# Altium footprint library LTC2367CMS-18_PBF.PCBLIB: 1 footprints
Each footprint in its own frame and in the unit in brackets; x right, y up, seen from the top. Pads: shape width x height; smd on the part's side, far side on the other; paste and mask are expansions set on the pad; w line width, h text height; cw(c..) or ccw(c..) is an arc to the next point about the centre after c.
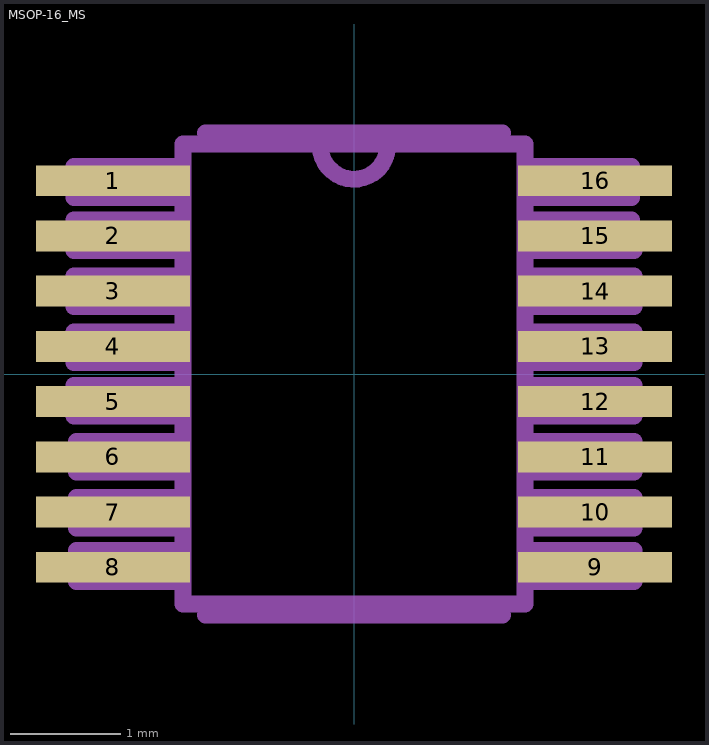
[diagram p0: the footprint, top view; thin cyan lines are the x and y axes]

## MSOP-16_MS [mil]
pads (16):
  rect 55x11 smd: 1(-86,68.95) 2(-86,49.25) 3(-86,29.55) 4(-86,9.85) 5(-86,-9.85) 6(-86,-29.55) 7(-86,-49.25) 8(-86,-68.95) 9(86,-68.95) 10(86,-49.25) 11(86,-29.55) 12(86,-9.85) 13(86,9.85) 14(86,29.55) 15(86,49.25) 16(86,68.95)
Assembly Top:
  lines w6: -12,81 ccw(c0,81.5) 12,82 ; 12,82 61,82 61,-82 -61,-82 -61,82 12,82 ; -100,-15 -100,-4 -61,-4 -61,-15 -100,-15 ; -100,4 -100,15 -61,15 -61,4 -100,4 ; -100,24 -100,35 -61,35 -61,24 -100,24 ; -100,44 -100,55 -61,55 -61,44 -100,44 ; -100,63 -100,74 -61,74 -61,63 -100,63 ; -99,-74 -99,-63 -61,-63 -61,-74 -99,-74 ; -99,-55 -99,-44 -61,-44 -61,-55 -99,-55 ; -99,-35 -99,-24 -61,-24 -61,-35 -99,-35 ; 61,-74 61,-63 100,-63 100,-74 61,-74 ; 61,-55 61,-44 100,-44 100,-55 61,-55 ; 61,-35 61,-24 100,-24 100,-35 61,-35 ; 61,-15 61,-4 100,-4 100,-15 61,-15 ; 61,4 61,15 100,15 100,4 61,4 ; 61,24 61,35 100,35 100,24 61,24 ; 61,44 61,55 99,55 100,44 61,44 ; 61,63 61,74 99,74 99,63 61,63
Mechanical 22:
  lines w6: -53,-86 53,-86 ; -53,86 53,86